# EAGLE library part IR2302 (library IR2302)
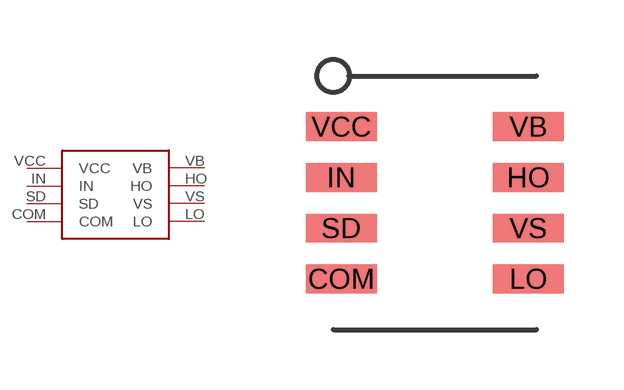
[diagram p0: symbol with the pads of IR2302; footprint IR2302]

Designator prefix -

## IR2302  [IR2302]
COM  COM
HO  HO
IN  IN
LO  LO
SD  SD
VB  VB
VCC  VCC
VS  VS

## Footprint IR2302 (pad centres in mm)
smd 1.78 x 0.72: COM -2.34,0; HO 2.34,2.54; IN -2.34,2.54; LO 2.34,0; SD -2.34,1.27; VB 2.34,3.81; VCC -2.34,3.81; VS 2.34,1.27